# EAGLE library part 615008142121 (library Wurth_Elektronik_Electromechanic_Input-Output_Connectors_rev15c)
WR-MJ Horizontal Shielded with Bipolar LED & Panel EMI Finger, 8 Pins=>Code : thb_615008142121 <http://katalog.we-online.de/media/thumbs2/eican/thb_615008137421_pf2.jpg> Details see: http://katalog.we-online.de/en/em/615_008_1xx_x21 Created 2014-07-10, Karrer Zheng 2014 (C) Würth Elektronik
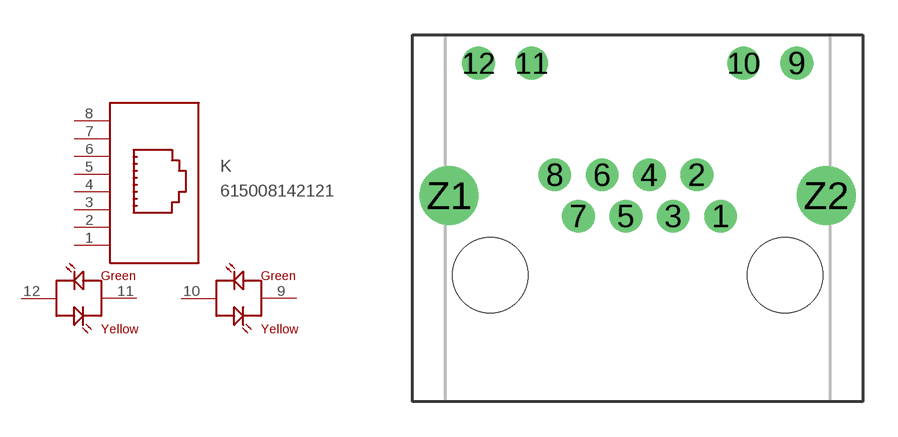
[diagram p116: symbol with the pads of 615008142121; footprint 615008142121]

Designator prefix K

## 615008142121  [615008142121]
1  1  pas
2  2  pas
3  3  pas
4  4  pas
5  5  pas
6  6  pas
7  7  pas
8  8  pas
9  11  pas
10  12  pas
11  9  pas
12  10  pas

## Footprint 615008142121 (pad centres in mm)
WR-MJ Horizontal Shielded with Bipolar LED & Panel EMI Finger, 8 Pins
drill 0.9: 1 3.57,-0.89; 2 2.55,0.89; 3 1.53,-0.89; 4 0.51,0.89; 5 -0.51,-0.89; 6 -1.53,0.89; 7 -2.55,-0.89; 8 -3.57,0.89; 9 6.86,5.71; 10 4.57,5.71; 11 -4.57,5.71; 12 -6.86,5.71
drill 1.7: Z1 -8.125,0; Z2 8.125,0
hole 3.25 at -6.35,-3.43
hole 3.25 at 6.35,-3.43